# EAGLE library part PCM5122 (library my_ic)
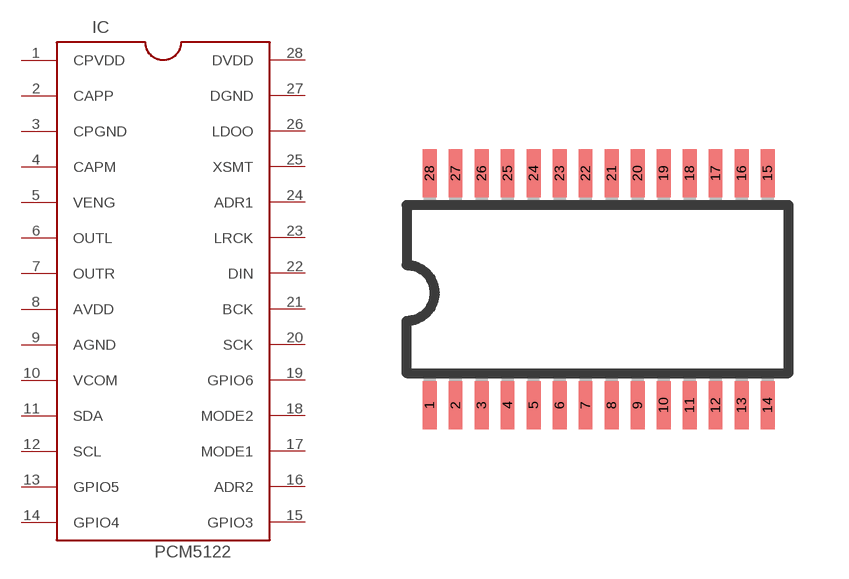
[diagram p10: symbol with the pads of TSSOP28; footprint TSSOP28]

Designator prefix IC

## PCM5122PWR  [TSSOP28]
1  CPVDD  pwr
2  CAPP  pas
3  CPGND  pwr
4  CAPM  pas
5  VENG  pas
6  OUTL  out
7  OUTR  out
8  AVDD  pwr
9  AGND  pwr
10  VCOM  pas
11  SDA
12  SCL
13  GPIO5
14  GPIO4
15  GPIO3
16  ADR2  in
17  MODE1  in
18  MODE2  in
19  GPIO6  in
20  SCK  in
21  BCK  in
22  DIN  in
23  LRCK  in
24  ADR1  in
25  XSMT  in
26  LDOO  pas
27  DGND  pwr
28  DVDD  pwr

## Footprint TSSOP28 (pad centres in mm)
28-Lead TSSOP Package RU-28
smd 0.35 x 1.2: 1 -4.225,-2.9; 2 -3.575,-2.9; 3 -2.925,-2.9; 4 -2.275,-2.9; 5 -1.625,-2.9; 6 -0.975,-2.9; 7 -0.325,-2.9; 8 0.325,-2.9; 9 0.975,-2.9; 10 1.625,-2.9; 11 2.275,-2.9; 12 2.925,-2.9; 13 3.575,-2.9; 14 4.225,-2.9; 15 4.225,2.9; 16 3.575,2.9; 17 2.925,2.9; 18 2.275,2.9; 19 1.625,2.9; 20 0.975,2.9; 21 0.325,2.9; 22 -0.325,2.9; 23 -0.975,2.9; 24 -1.625,2.9; 25 -2.275,2.9; 26 -2.925,2.9; 27 -3.575,2.9; 28 -4.225,2.9